# EAGLE library part DSPIC33EP512MU814-X_PL (library microchip2)
dsPIC33EP512MU814 16-bit Microcontrollers and Digital Signal Controllers (up to 512 KB Flash and 52 KB SRAM) with High-SpeedPWM, USB, and Advanced Analog
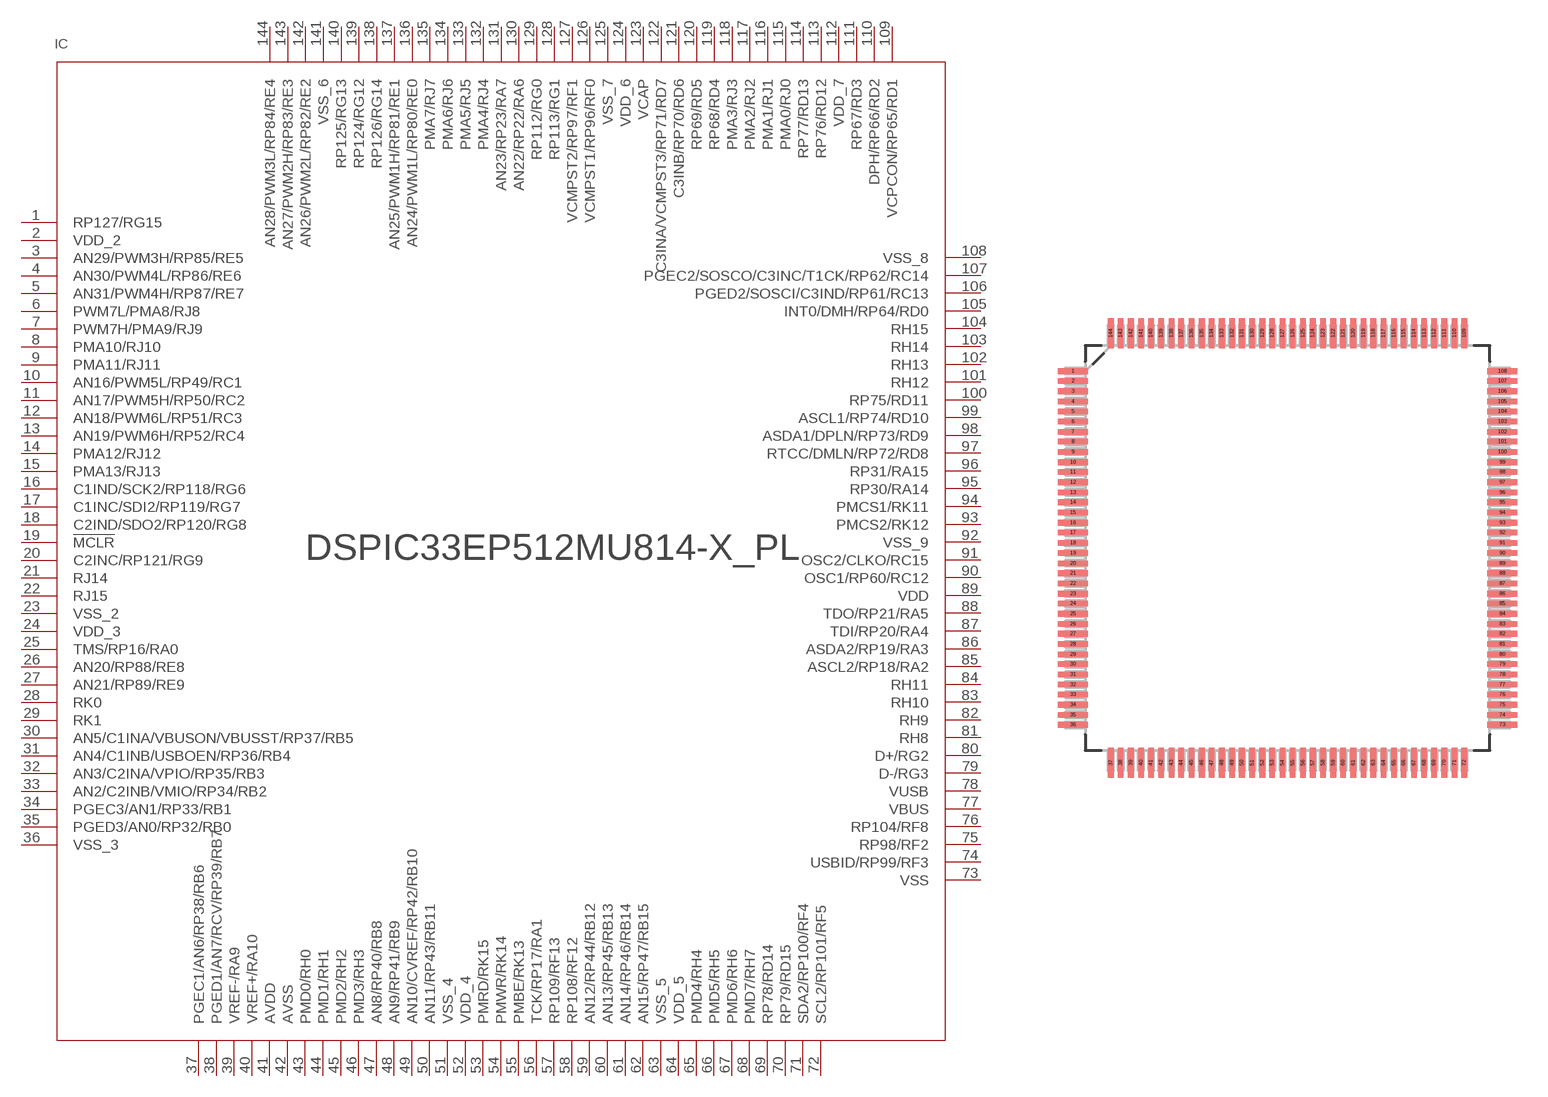
[diagram p155: symbol with the pads of LQFP144_20X20MC; footprint LQFP144_20X20MC]

Designator prefix IC

## DSPIC33EP512MU814-X_PL  [LQFP144_20X20MC]
1  RP127/RG15  pas
2  VDD_2  pwr
3  AN29/PWM3H/RP85/RE5  pas
4  AN30/PWM4L/RP86/RE6  pas
5  AN31/PWM4H/RP87/RE7  pas
6  PWM7L/PMA8/RJ8  pas
7  PWM7H/PMA9/RJ9  pas
8  PMA10/RJ10  pas
9  PMA11/RJ11  pas
10  AN16/PWM5L/RP49/RC1  pas
11  AN17/PWM5H/RP50/RC2  pas
12  AN18/PWM6L/RP51/RC3  pas
13  AN19/PWM6H/RP52/RC4  pas
14  PMA12/RJ12  pas
15  PMA13/RJ13  pas
16  C1IND/SCK2/RP118/RG6  pas
17  C1INC/SDI2/RP119/RG7  pas
18  C2IND/SDO2/RP120/RG8  pas
19  !MCLR  in
20  C2INC/RP121/RG9  pas
21  RJ14  pas
22  RJ15  pas
23  VSS_2  pwr
24  VDD_3  pwr
25  TMS/RP16/RA0  pas
26  AN20/RP88/RE8  pas
27  AN21/RP89/RE9  pas
28  RK0  pas
29  RK1  pas
30  AN5/C1INA/VBUSON/VBUSST/RP37/RB5  pas
31  AN4/C1INB/USBOEN/RP36/RB4  pas
32  AN3/C2INA/VPIO/RP35/RB3  pas
33  AN2/C2INB/VMIO/RP34/RB2  pas
34  PGEC3/AN1/RP33/RB1  pas
35  PGED3/AN0/RP32/RB0  pas
36  VSS_3  pwr
37  PGEC1/AN6/RP38/RB6  pas
38  PGED1/AN7/RCV/RP39/RB7  pas
39  VREF-/RA9  pas
40  VREF+/RA10  pas
41  AVDD  pwr
42  AVSS  pwr
43  PMD0/RH0  pas
44  PMD1/RH1  pas
45  PMD2/RH2  pas
46  PMD3/RH3  pas
47  AN8/RP40/RB8  pas
48  AN9/RP41/RB9  pas
49  AN10/CVREF/RP42/RB10  pas
50  AN11/RP43/RB11  pas
51  VSS_4  pwr
52  VDD_4  pwr
53  PMRD/RK15  pas
54  PMWR/RK14  pas
55  PMBE/RK13  pas
56  TCK/RP17/RA1  pas
57  RP109/RF13  pas
58  RP108/RF12  pas
59  AN12/RP44/RB12  pas
60  AN13/RP45/RB13  pas
61  AN14/RP46/RB14  pas
62  AN15/RP47/RB15  pas
63  VSS_5  pwr
64  VDD_5  pwr
65  PMD4/RH4  pas
66  PMD5/RH5  pas
67  PMD6/RH6  pas
68  PMD7/RH7  pas
69  RP78/RD14  pas
70  RP79/RD15  pas
71  SDA2/RP100/RF4  pas
72  SCL2/RP101/RF5  pas
73  VSS  pwr
74  USBID/RP99/RF3  pas
75  RP98/RF2  pas
76  RP104/RF8  pas
77  VBUS  pwr
78  VUSB  pwr
79  D-/RG3  pas
80  D+/RG2  pas
81  RH8  pas
82  RH9  pas
83  RH10  pas
84  RH11  pas
85  ASCL2/RP18/RA2  pas
86  ASDA2/RP19/RA3  pas
87  TDI/RP20/RA4  pas
88  TDO/RP21/RA5  pas
89  VDD  pwr
90  OSC1/RP60/RC12  pas
91  OSC2/CLKO/RC15  pas
92  VSS_9  pwr
93  PMCS2/RK12  pas
94  PMCS1/RK11  pas
95  RP30/RA14  pas
96  RP31/RA15  pas
97  RTCC/DMLN/RP72/RD8  pas
98  ASDA1/DPLN/RP73/RD9  pas
99  ASCL1/RP74/RD10  pas
100  RP75/RD11  pas
101  RH12  pas
102  RH13  pas
103  RH14  pas
104  RH15  pas
105  INT0/DMH/RP64/RD0  pas
106  PGED2/SOSCI/C3IND/RP61/RC13  pas
107  PGEC2/SOSCO/C3INC/T1CK/RP62/RC14  pas
108  VSS_8  pwr
109  VCPCON/RP65/RD1  pas
110  DPH/RP66/RD2  pas
111  RP67/RD3  pas
112  VDD_7  pwr
113  RP76/RD12  pas
114  RP77/RD13  pas
115  PMA0/RJ0  pas
116  PMA1/RJ1  pas
117  PMA2/RJ2  pas
118  PMA3/RJ3  pas
119  RP68/RD4  pas
120  RP69/RD5  pas
121  C3INB/RP70/RD6  pas
122  C3INA/VCMPST3/RP71/RD7  pas
123  VCAP  pwr
124  VDD_6  pwr
125  VSS_7  pwr
126  VCMPST1/RP96/RF0  pas
127  VCMPST2/RP97/RF1  pas
128  RP113/RG1  pas
129  RP112/RG0  pas
130  AN22/RP22/RA6  pas
131  AN23/RP23/RA7  pas
132  PMA4/RJ4  pas
133  PMA5/RJ5  pas
134  PMA6/RJ6  pas
135  PMA7/RJ7  pas
136  AN24/PWM1L/RP80/RE0  pas
137  AN25/PWM1H/RP81/RE1  pas
138  RP126/RG14  pas
139  RP124/RG12  pas
140  RP125/RG13  pas
141  VSS_6  pwr
142  AN26/PWM2L/RP82/RE2  pas
143  AN27/PWM2H/RP83/RE3  pas
144  AN28/PWM3L/RP84/RE4  pas

## Footprint LQFP144_20X20MC (pad centres in mm)
LQFP144 20X20
smd 1.473 x 0.279: 1 -10.617,8.738; 2 -10.617,8.255; 3 -10.617,7.747; 4 -10.617,7.239; 5 -10.617,6.756; 6 -10.617,6.248; 7 -10.617,5.74; 8 -10.617,5.258; 9 -10.617,4.75; 10 -10.617,4.242; 11 -10.617,3.759; 12 -10.617,3.251; 13 -10.617,2.743; 14 -10.617,2.261; 15 -10.617,1.753; 16 -10.617,1.245; 17 -10.617,0.762; 18 -10.617,0.254; 19 -10.617,-0.254; 20 -10.617,-0.762; 21 -10.617,-1.245; 22 -10.617,-1.753; 23 -10.617,-2.261; 24 -10.617,-2.743; 25 -10.617,-3.251; 26 -10.617,-3.759; 27 -10.617,-4.242; 28 -10.617,-4.75; 29 -10.617,-5.258; 30 -10.617,-5.74; 31 -10.617,-6.248; 32 -10.617,-6.756; 33 -10.617,-7.239; 34 -10.617,-7.747; 35 -10.617,-8.255; 36 -10.617,-8.738; 73 10.617,-8.738; 74 10.617,-8.255; 75 10.617,-7.747; 76 10.617,-7.239; 77 10.617,-6.756; 78 10.617,-6.248; 79 10.617,-5.74; 80 10.617,-5.258; 81 10.617,-4.75; 82 10.617,-4.242; 83 10.617,-3.759; 84 10.617,-3.251; 85 10.617,-2.743; 86 10.617,-2.261; 87 10.617,-1.753; 88 10.617,-1.245; 89 10.617,-0.762; 90 10.617,-0.254; 91 10.617,0.254; 92 10.617,0.762; 93 10.617,1.245; 94 10.617,1.753; 95 10.617,2.261; 96 10.617,2.743; 97 10.617,3.251; 98 10.617,3.759; 99 10.617,4.242; 100 10.617,4.75; 101 10.617,5.258; 102 10.617,5.74; 103 10.617,6.248; 104 10.617,6.756; 105 10.617,7.239; 106 10.617,7.747; 107 10.617,8.255; 108 10.617,8.738
smd 0.279 x 1.473: 37 -8.738,-10.617; 38 -8.255,-10.617; 39 -7.747,-10.617; 40 -7.239,-10.617; 41 -6.756,-10.617; 42 -6.248,-10.617; 43 -5.74,-10.617; 44 -5.258,-10.617; 45 -4.75,-10.617; 46 -4.242,-10.617; 47 -3.759,-10.617; 48 -3.251,-10.617; 49 -2.743,-10.617; 50 -2.261,-10.617; 51 -1.753,-10.617; 52 -1.245,-10.617; 53 -0.762,-10.617; 54 -0.254,-10.617; 55 0.254,-10.617; 56 0.762,-10.617; 57 1.245,-10.617; 58 1.753,-10.617; 59 2.261,-10.617; 60 2.743,-10.617; 61 3.251,-10.617; 62 3.759,-10.617; 63 4.242,-10.617; 64 4.75,-10.617; 65 5.258,-10.617; 66 5.74,-10.617; 67 6.248,-10.617; 68 6.756,-10.617; 69 7.239,-10.617; 70 7.747,-10.617; 71 8.255,-10.617; 72 8.738,-10.617; 109 8.738,10.617; 110 8.255,10.617; 111 7.747,10.617; 112 7.239,10.617; 113 6.756,10.617; 114 6.248,10.617; 115 5.74,10.617; 116 5.258,10.617; 117 4.75,10.617; 118 4.242,10.617; 119 3.759,10.617; 120 3.251,10.617; 121 2.743,10.617; 122 2.261,10.617; 123 1.753,10.617; 124 1.245,10.617; 125 0.762,10.617; 126 0.254,10.617; 127 -0.254,10.617; 128 -0.762,10.617; 129 -1.245,10.617; 130 -1.753,10.617; 131 -2.261,10.617; 132 -2.743,10.617; 133 -3.251,10.617; 134 -3.759,10.617; 135 -4.242,10.617; 136 -4.75,10.617; 137 -5.258,10.617; 138 -5.74,10.617; 139 -6.248,10.617; 140 -6.756,10.617; 141 -7.239,10.617; 142 -7.747,10.617; 143 -8.255,10.617; 144 -8.738,10.617